# EAGLE library part LT1300CS8#PBF-ND (library LT1300)
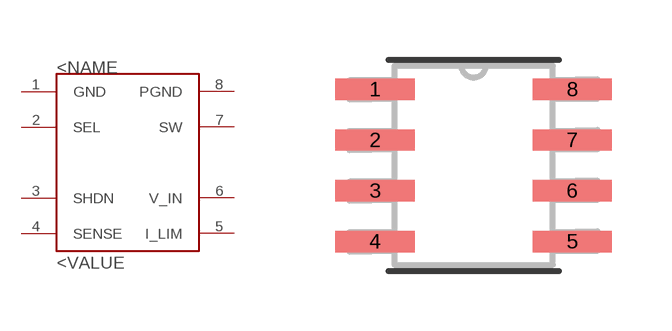
[diagram p0: symbol with the pads of SOIC-8_S; footprint SOIC-8_S]

Designator prefix -

## LT1300CS8#PBF-NDLT1300CS8#PBF-ND  [SOIC-8_S]
1  GND
2  SEL
3  SHDN
4  SENSE
5  I_LIM
6  V_IN
7  SW
8  PGND

## Footprint SOIC-8_S (pad centres in mm)
smd 1.981 x 0.533: 1 -2.464,1.905; 2 -2.464,0.635; 3 -2.464,-0.635; 4 -2.464,-1.905; 5 2.464,-1.905; 6 2.464,-0.635; 7 2.464,0.635; 8 2.464,1.905